# Altium integrated library Microchip Power Mgt Battery Management.IntLib: 217 symbols (part 1 of 6)
Pins are listed as number, name and electrical type; pins without a type are passive.

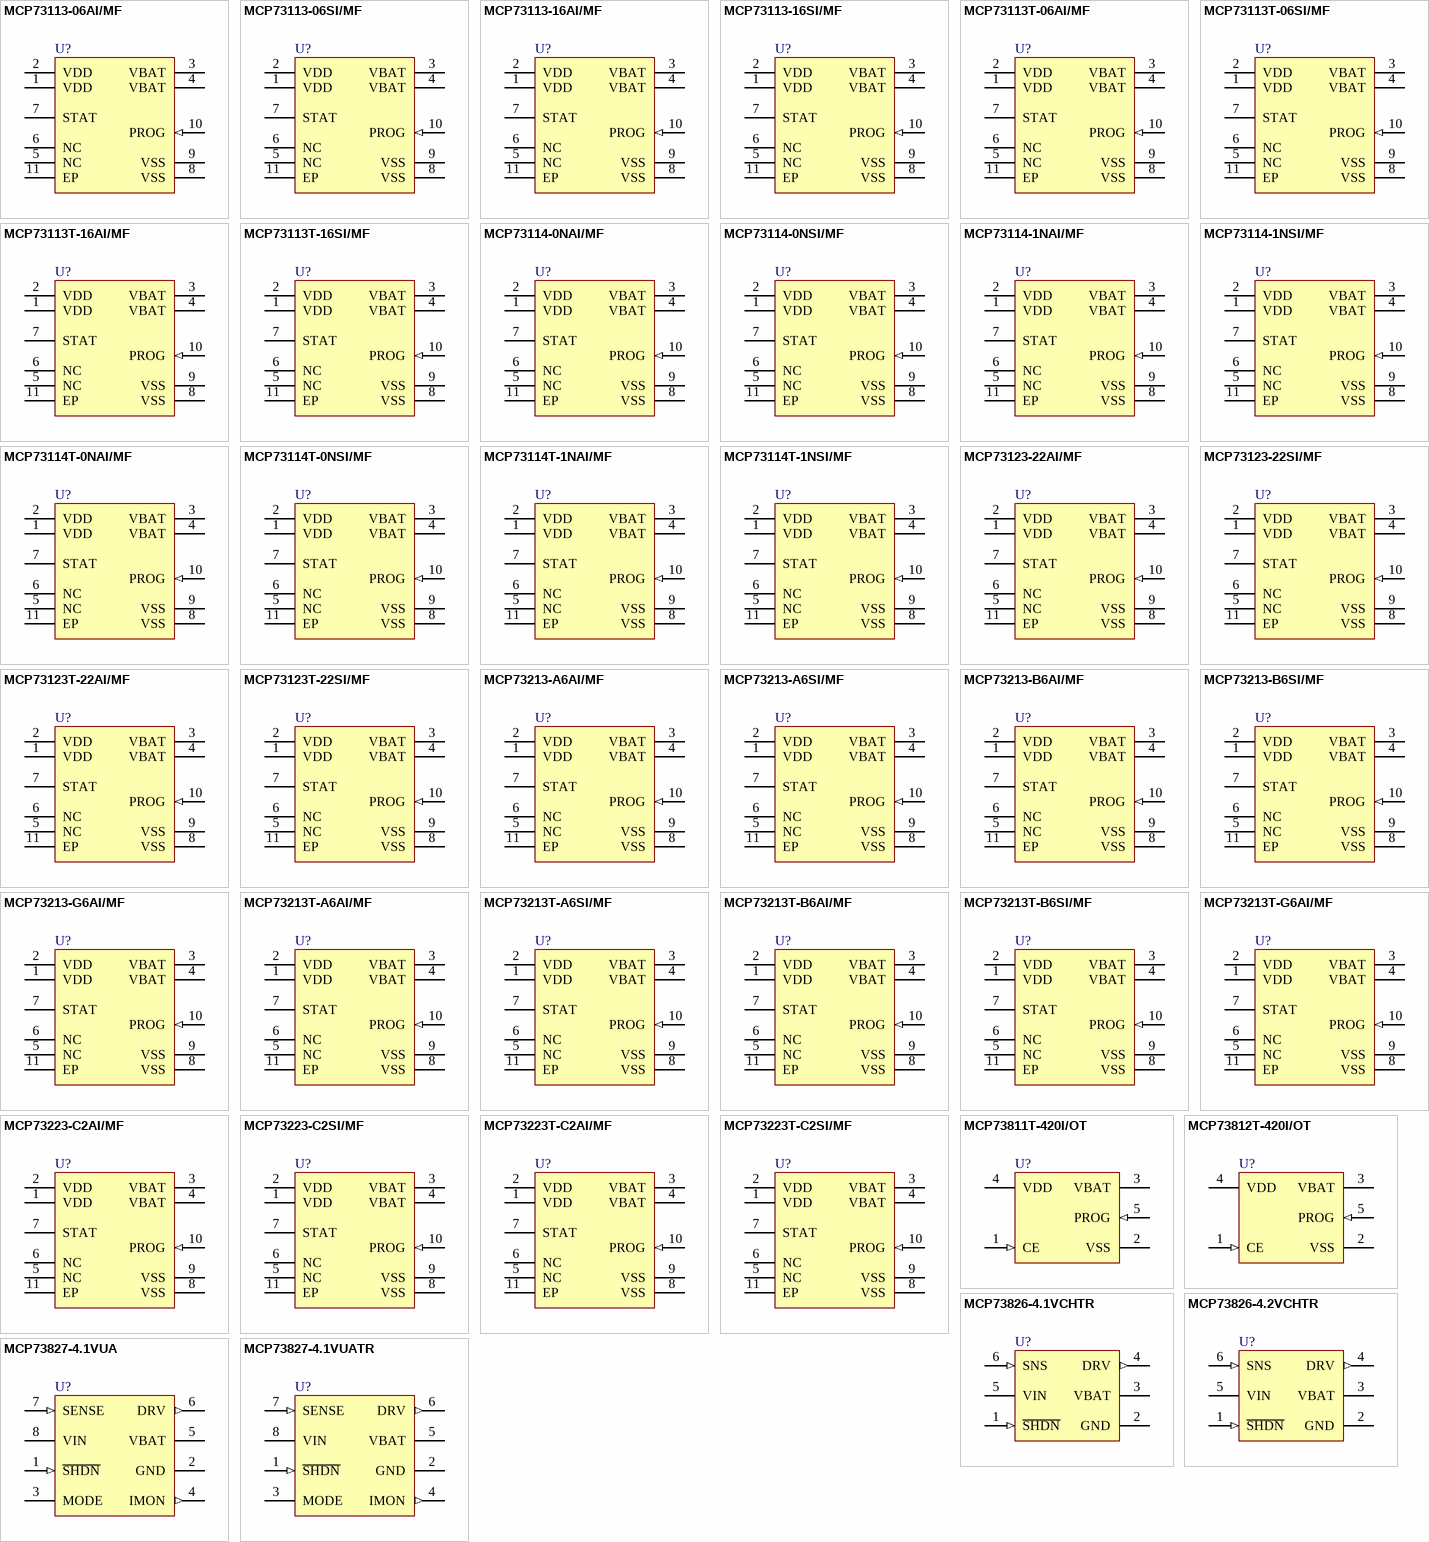
[diagram p0: symbols MCP73113-06AI/MF to MCP73827-4.1VUATR]

## MCP73113-06AI/MF
designator U?
Single-Cell Li-Ion / Li-Polymer Battery Charge Management Controller with Input, 6.5V, 10-Pin DFN, Industrial Temperature; Published: 2-Dec-2009; DatasheetVersion: revB, Jul-2009; PackageVersion: revBB, Aug-2009; PackageReference: DFN-MF10; Publisher: Altium Limited; PackageDescription: 10-Lead Plastic Dual Flat, No Lead Package (MF) - 3x3x0.9mm Body [DFN]; ComponentLink1Description: Datasheet; ComponentLink1URL: http://ww1.microchip.com/downloads/en/DeviceDoc/22183b.pdf; ComponentLink2Description: Packaging Specification; ComponentLink2URL: http://www.microchip.com/stellent/groups/techpub_sg/documents/packagingspec/en012702.pdf; ComponentLink3Description: Microchip.com Home; ComponentLink3URL: http://www.microchip.com/
footprint DFN-MF10 (SON, 10-Leads, Body 3x3mm, Pitch 0.5mm, Microchip Recommended)
pins: 1 VDD (power), 2 VDD (power), 3 VBAT (power), 4 VBAT (power), 5 NC, 6 NC, 7 STAT (oc), 8 VSS (power), 9 VSS (power), 10 PROG (in), 11 EP (power)

## MCP73113-06SI/MF
designator U?
Single-Cell Li-Ion / Li-Polymer Battery Charge Management Controller with Input, 6.5V, 10-Pin DFN, Industrial Temperature; Published: 2-Dec-2009; DatasheetVersion: revB, Jul-2009; PackageVersion: revBB, Aug-2009; PackageReference: DFN-MF10; Publisher: Altium Limited; PackageDescription: 10-Lead Plastic Dual Flat, No Lead Package (MF) - 3x3x0.9mm Body [DFN]; Supplier 1: Digi-Key; Supplier Part Number 1: MCP73113-06SI/MF-ND; Supplier 2: Farnell; Supplier Part Number 2: 1715881; ComponentLink1Description: Datasheet; ComponentLink1URL: http://ww1.microchip.com/downloads/en/DeviceDoc/22183b.pdf; ComponentLink2Description: Packaging Specification; ComponentLink2URL: http://www.microchip.com/stellent/groups/techpub_sg/documents/packagingspec/en012702.pdf; ComponentLink3Description: Microchip.com Home; ComponentLink3URL: http://www.microchip.com/
footprint DFN-MF10 (SON, 10-Leads, Body 3x3mm, Pitch 0.5mm, Microchip Recommended)
pins: 1 VDD (power), 2 VDD (power), 3 VBAT (power), 4 VBAT (power), 5 NC, 6 NC, 7 STAT (oc), 8 VSS (power), 9 VSS (power), 10 PROG (in), 11 EP (power)

## MCP73113-16AI/MF
designator U?
Single-Cell Li-Ion / Li-Polymer Battery Charge Management Controller with Input, 6.5V, 10-Pin DFN, Industrial Temperature; Published: 2-Dec-2009; DatasheetVersion: revB, Jul-2009; PackageVersion: revBB, Aug-2009; PackageReference: DFN-MF10; Publisher: Altium Limited; PackageDescription: 10-Lead Plastic Dual Flat, No Lead Package (MF) - 3x3x0.9mm Body [DFN]; ComponentLink1Description: Datasheet; ComponentLink1URL: http://ww1.microchip.com/downloads/en/DeviceDoc/22183b.pdf; ComponentLink2Description: Packaging Specification; ComponentLink2URL: http://www.microchip.com/stellent/groups/techpub_sg/documents/packagingspec/en012702.pdf; ComponentLink3Description: Microchip.com Home; ComponentLink3URL: http://www.microchip.com/
footprint DFN-MF10 (SON, 10-Leads, Body 3x3mm, Pitch 0.5mm, Microchip Recommended)
pins: 1 VDD (power), 2 VDD (power), 3 VBAT (power), 4 VBAT (power), 5 NC, 6 NC, 7 STAT (oc), 8 VSS (power), 9 VSS (power), 10 PROG (in), 11 EP (power)

## MCP73113-16SI/MF
designator U?
Single-Cell Li-Ion / Li-Polymer Battery Charge Management Controller with Input, 6.5V, 10-Pin DFN, Industrial Temperature; Published: 2-Dec-2009; DatasheetVersion: revB, Jul-2009; PackageVersion: revBB, Aug-2009; PackageReference: DFN-MF10; Publisher: Altium Limited; PackageDescription: 10-Lead Plastic Dual Flat, No Lead Package (MF) - 3x3x0.9mm Body [DFN]; Supplier 1: Digi-Key; Supplier Part Number 1: MCP73113-16SI/MF-ND; ComponentLink1Description: Datasheet; ComponentLink1URL: http://ww1.microchip.com/downloads/en/DeviceDoc/22183b.pdf; ComponentLink2Description: Packaging Specification; ComponentLink2URL: http://www.microchip.com/stellent/groups/techpub_sg/documents/packagingspec/en012702.pdf; ComponentLink3Description: Microchip.com Home; ComponentLink3URL: http://www.microchip.com/
footprint DFN-MF10 (SON, 10-Leads, Body 3x3mm, Pitch 0.5mm, Microchip Recommended)
pins: 1 VDD (power), 2 VDD (power), 3 VBAT (power), 4 VBAT (power), 5 NC, 6 NC, 7 STAT (oc), 8 VSS (power), 9 VSS (power), 10 PROG (in), 11 EP (power)

## MCP73113T-06AI/MF
designator U?
Single-Cell Li-Ion / Li-Polymer Battery Charge Management Controller with Input, 6.5V, 10-Pin DFN, Industrial Temperature, Tape and Reel; Published: 2-Dec-2009; DatasheetVersion: revB, Jul-2009; PackageVersion: revBB, Aug-2009; PackageReference: DFN-MF10; Publisher: Altium Limited; PackageDescription: 10-Lead Plastic Dual Flat, No Lead Package (MF) - 3x3x0.9mm Body [DFN]; ComponentLink1Description: Datasheet; ComponentLink1URL: http://ww1.microchip.com/downloads/en/DeviceDoc/22183b.pdf; ComponentLink2Description: Packaging Specification; ComponentLink2URL: http://www.microchip.com/stellent/groups/techpub_sg/documents/packagingspec/en012702.pdf; ComponentLink3Description: Microchip.com Home; ComponentLink3URL: http://www.microchip.com/
footprint DFN-MF10 (SON, 10-Leads, Body 3x3mm, Pitch 0.5mm, Microchip Recommended)
pins: 1 VDD (power), 2 VDD (power), 3 VBAT (power), 4 VBAT (power), 5 NC, 6 NC, 7 STAT (oc), 8 VSS (power), 9 VSS (power), 10 PROG (in), 11 EP (power)

## MCP73113T-06SI/MF
designator U?
Single-Cell Li-Ion / Li-Polymer Battery Charge Management Controller with Input, 6.5V, 10-Pin DFN, Industrial Temperature, Tape and Reel; Published: 2-Dec-2009; DatasheetVersion: revB, Jul-2009; PackageVersion: revBB, Aug-2009; PackageReference: DFN-MF10; Publisher: Altium Limited; PackageDescription: 10-Lead Plastic Dual Flat, No Lead Package (MF) - 3x3x0.9mm Body [DFN]; Supplier 1: Digi-Key; Supplier Part Number 1: MCP73113T-06SI/MF-ND; ComponentLink1Description: Datasheet; ComponentLink1URL: http://ww1.microchip.com/downloads/en/DeviceDoc/22183b.pdf; ComponentLink2Description: Packaging Specification; ComponentLink2URL: http://www.microchip.com/stellent/groups/techpub_sg/documents/packagingspec/en012702.pdf; ComponentLink3Description: Microchip.com Home; ComponentLink3URL: http://www.microchip.com/
footprint DFN-MF10 (SON, 10-Leads, Body 3x3mm, Pitch 0.5mm, Microchip Recommended)
pins: 1 VDD (power), 2 VDD (power), 3 VBAT (power), 4 VBAT (power), 5 NC, 6 NC, 7 STAT (oc), 8 VSS (power), 9 VSS (power), 10 PROG (in), 11 EP (power)

## MCP73113T-16AI/MF
designator U?
Single-Cell Li-Ion / Li-Polymer Battery Charge Management Controller with Input, 6.5V, 10-Pin DFN, Industrial Temperature, Tape and Reel; Published: 2-Dec-2009; DatasheetVersion: revB, Jul-2009; PackageVersion: revBB, Aug-2009; PackageReference: DFN-MF10; Publisher: Altium Limited; PackageDescription: 10-Lead Plastic Dual Flat, No Lead Package (MF) - 3x3x0.9mm Body [DFN]; ComponentLink1Description: Datasheet; ComponentLink1URL: http://ww1.microchip.com/downloads/en/DeviceDoc/22183b.pdf; ComponentLink2Description: Packaging Specification; ComponentLink2URL: http://www.microchip.com/stellent/groups/techpub_sg/documents/packagingspec/en012702.pdf; ComponentLink3Description: Microchip.com Home; ComponentLink3URL: http://www.microchip.com/
footprint DFN-MF10 (SON, 10-Leads, Body 3x3mm, Pitch 0.5mm, Microchip Recommended)
pins: 1 VDD (power), 2 VDD (power), 3 VBAT (power), 4 VBAT (power), 5 NC, 6 NC, 7 STAT (oc), 8 VSS (power), 9 VSS (power), 10 PROG (in), 11 EP (power)

## MCP73113T-16SI/MF
designator U?
Single-Cell Li-Ion / Li-Polymer Battery Charge Management Controller with Input, 6.5V, 10-Pin DFN, Industrial Temperature, Tape and Reel; Published: 2-Dec-2009; DatasheetVersion: revB, Jul-2009; PackageVersion: revBB, Aug-2009; PackageReference: DFN-MF10; Publisher: Altium Limited; PackageDescription: 10-Lead Plastic Dual Flat, No Lead Package (MF) - 3x3x0.9mm Body [DFN]; Supplier 1: Digi-Key; Supplier Part Number 1: MCP73113T-16SI/MF-ND; ComponentLink1Description: Datasheet; ComponentLink1URL: http://ww1.microchip.com/downloads/en/DeviceDoc/22183b.pdf; ComponentLink2Description: Packaging Specification; ComponentLink2URL: http://www.microchip.com/stellent/groups/techpub_sg/documents/packagingspec/en012702.pdf; ComponentLink3Description: Microchip.com Home; ComponentLink3URL: http://www.microchip.com/
footprint DFN-MF10 (SON, 10-Leads, Body 3x3mm, Pitch 0.5mm, Microchip Recommended)
pins: 1 VDD (power), 2 VDD (power), 3 VBAT (power), 4 VBAT (power), 5 NC, 6 NC, 7 STAT (oc), 8 VSS (power), 9 VSS (power), 10 PROG (in), 11 EP (power)

## MCP73114-0NAI/MF
designator U?
Single-Cell Li-Ion / Li-Polymer Battery Charge Management Controller with Input, 5.8V, 10-Pin DFN, Industrial Temperature; Published: 2-Dec-2009; DatasheetVersion: revB, Jul-2009; PackageVersion: revBB, Aug-2009; PackageReference: DFN-MF10; Publisher: Altium Limited; PackageDescription: 10-Lead Plastic Dual Flat, No Lead Package (MF) - 3x3x0.9mm Body [DFN]; ComponentLink1Description: Datasheet; ComponentLink1URL: http://ww1.microchip.com/downloads/en/DeviceDoc/22183b.pdf; ComponentLink2Description: Packaging Specification; ComponentLink2URL: http://www.microchip.com/stellent/groups/techpub_sg/documents/packagingspec/en012702.pdf; ComponentLink3Description: Microchip.com Home; ComponentLink3URL: http://www.microchip.com/
footprint DFN-MF10 (SON, 10-Leads, Body 3x3mm, Pitch 0.5mm, Microchip Recommended)
pins: 1 VDD (power), 2 VDD (power), 3 VBAT (power), 4 VBAT (power), 5 NC, 6 NC, 7 STAT (oc), 8 VSS (power), 9 VSS (power), 10 PROG (in), 11 EP (power)

## MCP73114-0NSI/MF
designator U?
Single-Cell Li-Ion / Li-Polymer Battery Charge Management Controller with Input, 5.8V, 10-Pin DFN, Industrial Temperature; Published: 2-Dec-2009; DatasheetVersion: revB, Jul-2009; PackageVersion: revBB, Aug-2009; PackageReference: DFN-MF10; Publisher: Altium Limited; PackageDescription: 10-Lead Plastic Dual Flat, No Lead Package (MF) - 3x3x0.9mm Body [DFN]; Supplier 1: Digi-Key; Supplier Part Number 1: MCP73114-0NSI/MF-ND; Supplier 2: Farnell; Supplier Part Number 2: 1800228; ComponentLink1Description: Datasheet; ComponentLink1URL: http://ww1.microchip.com/downloads/en/DeviceDoc/22183b.pdf; ComponentLink2Description: Packaging Specification; ComponentLink2URL: http://www.microchip.com/stellent/groups/techpub_sg/documents/packagingspec/en012702.pdf; ComponentLink3Description: Microchip.com Home; ComponentLink3URL: http://www.microchip.com/
footprint DFN-MF10 (SON, 10-Leads, Body 3x3mm, Pitch 0.5mm, Microchip Recommended)
pins: 1 VDD (power), 2 VDD (power), 3 VBAT (power), 4 VBAT (power), 5 NC, 6 NC, 7 STAT (oc), 8 VSS (power), 9 VSS (power), 10 PROG (in), 11 EP (power)

## MCP73114-1NAI/MF
designator U?
Single-Cell Li-Ion / Li-Polymer Battery Charge Management Controller with Input, 5.8V, 10-Pin DFN, Industrial Temperature; Published: 2-Dec-2009; DatasheetVersion: revB, Jul-2009; PackageVersion: revBB, Aug-2009; PackageReference: DFN-MF10; Publisher: Altium Limited; PackageDescription: 10-Lead Plastic Dual Flat, No Lead Package (MF) - 3x3x0.9mm Body [DFN]; ComponentLink1Description: Datasheet; ComponentLink1URL: http://ww1.microchip.com/downloads/en/DeviceDoc/22183b.pdf; ComponentLink2Description: Packaging Specification; ComponentLink2URL: http://www.microchip.com/stellent/groups/techpub_sg/documents/packagingspec/en012702.pdf; ComponentLink3Description: Microchip.com Home; ComponentLink3URL: http://www.microchip.com/
footprint DFN-MF10 (SON, 10-Leads, Body 3x3mm, Pitch 0.5mm, Microchip Recommended)
pins: 1 VDD (power), 2 VDD (power), 3 VBAT (power), 4 VBAT (power), 5 NC, 6 NC, 7 STAT (oc), 8 VSS (power), 9 VSS (power), 10 PROG (in), 11 EP (power)

## MCP73114-1NSI/MF
designator U?
Single-Cell Li-Ion / Li-Polymer Battery Charge Management Controller with Input, 5.8V, 10-Pin DFN, Industrial Temperature; Published: 2-Dec-2009; DatasheetVersion: revB, Jul-2009; PackageVersion: revBB, Aug-2009; PackageReference: DFN-MF10; Publisher: Altium Limited; PackageDescription: 10-Lead Plastic Dual Flat, No Lead Package (MF) - 3x3x0.9mm Body [DFN]; Supplier 1: Digi-Key; Supplier Part Number 1: MCP73114-1NSI/MF-ND; ComponentLink1Description: Datasheet; ComponentLink1URL: http://ww1.microchip.com/downloads/en/DeviceDoc/22183b.pdf; ComponentLink2Description: Packaging Specification; ComponentLink2URL: http://www.microchip.com/stellent/groups/techpub_sg/documents/packagingspec/en012702.pdf; ComponentLink3Description: Microchip.com Home; ComponentLink3URL: http://www.microchip.com/
footprint DFN-MF10 (SON, 10-Leads, Body 3x3mm, Pitch 0.5mm, Microchip Recommended)
pins: 1 VDD (power), 2 VDD (power), 3 VBAT (power), 4 VBAT (power), 5 NC, 6 NC, 7 STAT (oc), 8 VSS (power), 9 VSS (power), 10 PROG (in), 11 EP (power)

## MCP73114T-0NAI/MF
designator U?
Single-Cell Li-Ion / Li-Polymer Battery Charge Management Controller with Input, 5.8V, 10-Pin DFN, Industrial Temperature, Tape and Reel; Published: 2-Dec-2009; DatasheetVersion: revB, Jul-2009; PackageVersion: revBB, Aug-2009; PackageReference: DFN-MF10; Publisher: Altium Limited; PackageDescription: 10-Lead Plastic Dual Flat, No Lead Package (MF) - 3x3x0.9mm Body [DFN]; ComponentLink1Description: Datasheet; ComponentLink1URL: http://ww1.microchip.com/downloads/en/DeviceDoc/22183b.pdf; ComponentLink2Description: Packaging Specification; ComponentLink2URL: http://www.microchip.com/stellent/groups/techpub_sg/documents/packagingspec/en012702.pdf; ComponentLink3Description: Microchip.com Home; ComponentLink3URL: http://www.microchip.com/
footprint DFN-MF10 (SON, 10-Leads, Body 3x3mm, Pitch 0.5mm, Microchip Recommended)
pins: 1 VDD (power), 2 VDD (power), 3 VBAT (power), 4 VBAT (power), 5 NC, 6 NC, 7 STAT (oc), 8 VSS (power), 9 VSS (power), 10 PROG (in), 11 EP (power)

## MCP73114T-0NSI/MF
designator U?
Single-Cell Li-Ion / Li-Polymer Battery Charge Management Controller with Input, 5.8V, 10-Pin DFN, Industrial Temperature, Tape and Reel; Published: 2-Dec-2009; DatasheetVersion: revB, Jul-2009; PackageVersion: revBB, Aug-2009; PackageReference: DFN-MF10; Publisher: Altium Limited; PackageDescription: 10-Lead Plastic Dual Flat, No Lead Package (MF) - 3x3x0.9mm Body [DFN]; Supplier 1: Digi-Key; Supplier Part Number 1: MCP73114T-0NSI/MF-ND; ComponentLink1Description: Datasheet; ComponentLink1URL: http://ww1.microchip.com/downloads/en/DeviceDoc/22183b.pdf; ComponentLink2Description: Packaging Specification; ComponentLink2URL: http://www.microchip.com/stellent/groups/techpub_sg/documents/packagingspec/en012702.pdf; ComponentLink3Description: Microchip.com Home; ComponentLink3URL: http://www.microchip.com/
footprint DFN-MF10 (SON, 10-Leads, Body 3x3mm, Pitch 0.5mm, Microchip Recommended)
pins: 1 VDD (power), 2 VDD (power), 3 VBAT (power), 4 VBAT (power), 5 NC, 6 NC, 7 STAT (oc), 8 VSS (power), 9 VSS (power), 10 PROG (in), 11 EP (power)

## MCP73114T-1NAI/MF
designator U?
Single-Cell Li-Ion / Li-Polymer Battery Charge Management Controller with Input, 5.8V, 10-Pin DFN, Industrial Temperature, Tape and Reel; Published: 2-Dec-2009; DatasheetVersion: revB, Jul-2009; PackageVersion: revBB, Aug-2009; PackageReference: DFN-MF10; Publisher: Altium Limited; PackageDescription: 10-Lead Plastic Dual Flat, No Lead Package (MF) - 3x3x0.9mm Body [DFN]; ComponentLink1Description: Datasheet; ComponentLink1URL: http://ww1.microchip.com/downloads/en/DeviceDoc/22183b.pdf; ComponentLink2Description: Packaging Specification; ComponentLink2URL: http://www.microchip.com/stellent/groups/techpub_sg/documents/packagingspec/en012702.pdf; ComponentLink3Description: Microchip.com Home; ComponentLink3URL: http://www.microchip.com/
footprint DFN-MF10 (SON, 10-Leads, Body 3x3mm, Pitch 0.5mm, Microchip Recommended)
pins: 1 VDD (power), 2 VDD (power), 3 VBAT (power), 4 VBAT (power), 5 NC, 6 NC, 7 STAT (oc), 8 VSS (power), 9 VSS (power), 10 PROG (in), 11 EP (power)

## MCP73114T-1NSI/MF
designator U?
Single-Cell Li-Ion / Li-Polymer Battery Charge Management Controller with Input, 5.8V, 10-Pin DFN, Industrial Temperature, Tape and Reel; Published: 2-Dec-2009; DatasheetVersion: revB, Jul-2009; PackageVersion: revBB, Aug-2009; PackageReference: DFN-MF10; Publisher: Altium Limited; PackageDescription: 10-Lead Plastic Dual Flat, No Lead Package (MF) - 3x3x0.9mm Body [DFN]; Supplier 1: Digi-Key; Supplier Part Number 1: MCP73114T-1NSI/MF-ND; ComponentLink1Description: Datasheet; ComponentLink1URL: http://ww1.microchip.com/downloads/en/DeviceDoc/22183b.pdf; ComponentLink2Description: Packaging Specification; ComponentLink2URL: http://www.microchip.com/stellent/groups/techpub_sg/documents/packagingspec/en012702.pdf; ComponentLink3Description: Microchip.com Home; ComponentLink3URL: http://www.microchip.com/
footprint DFN-MF10 (SON, 10-Leads, Body 3x3mm, Pitch 0.5mm, Microchip Recommended)
pins: 1 VDD (power), 2 VDD (power), 3 VBAT (power), 4 VBAT (power), 5 NC, 6 NC, 7 STAT (oc), 8 VSS (power), 9 VSS (power), 10 PROG (in), 11 EP (power)

## MCP73123-22AI/MF
designator U?
Lithium Iron Phosphate (LiFePO4) Battery Charge Management Controller with Input OVP, 6.5V, 10-Pin DFN, Industrial Temperature; Published: 2-Dec-2009; DatasheetVersion: revA, Jul-2009; PackageVersion: revBB, Aug-2009; PackageReference: DFN-MF10; Publisher: Altium Limited; PackageDescription: 10-Lead Plastic Dual Flat, No Lead Package (MF) - 3x3x0.9mm Body [DFN]; ComponentLink1Description: Datasheet; ComponentLink1URL: http://ww1.microchip.com/downloads/en/DeviceDoc/22191a.pdf; ComponentLink2Description: Packaging Specification; ComponentLink2URL: http://www.microchip.com/stellent/groups/techpub_sg/documents/packagingspec/en012702.pdf; ComponentLink3Description: Microchip.com Home; ComponentLink3URL: http://www.microchip.com/
footprint DFN-MF10 (SON, 10-Leads, Body 3x3mm, Pitch 0.5mm, Microchip Recommended)
pins: 1 VDD (power), 2 VDD (power), 3 VBAT (power), 4 VBAT (power), 5 NC, 6 NC, 7 STAT (oc), 8 VSS (power), 9 VSS (power), 10 PROG (in), 11 EP (power)

## MCP73123-22SI/MF
designator U?
Lithium Iron Phosphate (LiFePO4) Battery Charge Management Controller with Input OVP, 6.5V, 10-Pin DFN, Industrial Temperature; Published: 2-Dec-2009; DatasheetVersion: revA, Jul-2009; PackageVersion: revBB, Aug-2009; PackageReference: DFN-MF10; Publisher: Altium Limited; PackageDescription: 10-Lead Plastic Dual Flat, No Lead Package (MF) - 3x3x0.9mm Body [DFN]; Supplier 1: Digi-Key; Supplier Part Number 1: MCP73123-22SI/MF-ND; Supplier 2: Farnell; Supplier Part Number 2: 1800229; Supplier 3: Farnell; Supplier Part Number 3: 1762537; ComponentLink1Description: Datasheet; ComponentLink1URL: http://ww1.microchip.com/downloads/en/DeviceDoc/22191a.pdf; ComponentLink2Description: Packaging Specification; ComponentLink2URL: http://www.microchip.com/stellent/groups/techpub_sg/documents/packagingspec/en012702.pdf; ComponentLink3Description: Microchip.com Home; ComponentLink3URL: http://www.microchip.com/
footprint DFN-MF10 (SON, 10-Leads, Body 3x3mm, Pitch 0.5mm, Microchip Recommended)
pins: 1 VDD (power), 2 VDD (power), 3 VBAT (power), 4 VBAT (power), 5 NC, 6 NC, 7 STAT (oc), 8 VSS (power), 9 VSS (power), 10 PROG (in), 11 EP (power)

## MCP73123T-22AI/MF
designator U?
Lithium Iron Phosphate (LiFePO4) Battery Charge Management Controller with Input OVP, 6.5V, 10-Pin DFN, Industrial Temperature, Tape and Reel; Published: 2-Dec-2009; DatasheetVersion: revA, Jul-2009; PackageVersion: revBB, Aug-2009; PackageReference: DFN-MF10; Publisher: Altium Limited; PackageDescription: 10-Lead Plastic Dual Flat, No Lead Package (MF) - 3x3x0.9mm Body [DFN]; ComponentLink1Description: Datasheet; ComponentLink1URL: http://ww1.microchip.com/downloads/en/DeviceDoc/22191a.pdf; ComponentLink2Description: Packaging Specification; ComponentLink2URL: http://www.microchip.com/stellent/groups/techpub_sg/documents/packagingspec/en012702.pdf; ComponentLink3Description: Microchip.com Home; ComponentLink3URL: http://www.microchip.com/
footprint DFN-MF10 (SON, 10-Leads, Body 3x3mm, Pitch 0.5mm, Microchip Recommended)
pins: 1 VDD (power), 2 VDD (power), 3 VBAT (power), 4 VBAT (power), 5 NC, 6 NC, 7 STAT (oc), 8 VSS (power), 9 VSS (power), 10 PROG (in), 11 EP (power)

## MCP73123T-22SI/MF
designator U?
Lithium Iron Phosphate (LiFePO4) Battery Charge Management Controller with Input OVP, 6.5V, 10-Pin DFN, Industrial Temperature, Tape and Reel; Published: 2-Dec-2009; DatasheetVersion: revA, Jul-2009; PackageVersion: revBB, Aug-2009; PackageReference: DFN-MF10; Publisher: Altium Limited; PackageDescription: 10-Lead Plastic Dual Flat, No Lead Package (MF) - 3x3x0.9mm Body [DFN]; Supplier 1: Digi-Key; Supplier Part Number 1: MCP73123T-22SI/MF-ND; ComponentLink1Description: Datasheet; ComponentLink1URL: http://ww1.microchip.com/downloads/en/DeviceDoc/22191a.pdf; ComponentLink2Description: Packaging Specification; ComponentLink2URL: http://www.microchip.com/stellent/groups/techpub_sg/documents/packagingspec/en012702.pdf; ComponentLink3Description: Microchip.com Home; ComponentLink3URL: http://www.microchip.com/
footprint DFN-MF10 (SON, 10-Leads, Body 3x3mm, Pitch 0.5mm, Microchip Recommended)
pins: 1 VDD (power), 2 VDD (power), 3 VBAT (power), 4 VBAT (power), 5 NC, 6 NC, 7 STAT (oc), 8 VSS (power), 9 VSS (power), 10 PROG (in), 11 EP (power)

## MCP73213-A6AI/MF
designator U?
Dual-Cell Li-Ion / Li-Polymer Battery Charge Management Controller with OVP, 13V, 10-Pin DFN, Industrial Temperature; Published: 2-Dec-2009; DatasheetVersion: revA, Jul-2009; PackageVersion: revBB, Aug-2009; PackageReference: DFN-MF10; Publisher: Altium Limited; PackageDescription: 10-Lead Plastic Dual Flat, No Lead Package (MF) - 3x3x0.9mm Body [DFN]; ComponentLink1Description: Datasheet; ComponentLink1URL: http://ww1.microchip.com/downloads/en/DeviceDoc/22190a.pdf; ComponentLink2Description: Packaging Specification; ComponentLink2URL: http://www.microchip.com/stellent/groups/techpub_sg/documents/packagingspec/en012702.pdf; ComponentLink3Description: Microchip.com Home; ComponentLink3URL: http://www.microchip.com/
footprint DFN-MF10 (SON, 10-Leads, Body 3x3mm, Pitch 0.5mm, Microchip Recommended)
pins: 1 VDD (power), 2 VDD (power), 3 VBAT (power), 4 VBAT (power), 5 NC, 6 NC, 7 STAT (oc), 8 VSS (power), 9 VSS (power), 10 PROG (in), 11 EP (power)

## MCP73213-A6SI/MF
designator U?
Dual-Cell Li-Ion / Li-Polymer Battery Charge Management Controller with OVP, 13V, 10-Pin DFN, Industrial Temperature; Published: 2-Dec-2009; DatasheetVersion: revA, Jul-2009; PackageVersion: revBB, Aug-2009; PackageReference: DFN-MF10; Publisher: Altium Limited; PackageDescription: 10-Lead Plastic Dual Flat, No Lead Package (MF) - 3x3x0.9mm Body [DFN]; Supplier 1: Digi-Key; Supplier Part Number 1: MCP73213-A6SI/MF-ND; Supplier 2: Farnell; Supplier Part Number 2: 1800230; ComponentLink1Description: Datasheet; ComponentLink1URL: http://ww1.microchip.com/downloads/en/DeviceDoc/22190a.pdf; ComponentLink2Description: Packaging Specification; ComponentLink2URL: http://www.microchip.com/stellent/groups/techpub_sg/documents/packagingspec/en012702.pdf; ComponentLink3Description: Microchip.com Home; ComponentLink3URL: http://www.microchip.com/
footprint DFN-MF10 (SON, 10-Leads, Body 3x3mm, Pitch 0.5mm, Microchip Recommended)
pins: 1 VDD (power), 2 VDD (power), 3 VBAT (power), 4 VBAT (power), 5 NC, 6 NC, 7 STAT (oc), 8 VSS (power), 9 VSS (power), 10 PROG (in), 11 EP (power)

## MCP73213-B6AI/MF
designator U?
Dual-Cell Li-Ion / Li-Polymer Battery Charge Management Controller with OVP, 13V, 10-Pin DFN, Industrial Temperature; Published: 2-Dec-2009; DatasheetVersion: revA, Jul-2009; PackageVersion: revBB, Aug-2009; PackageReference: DFN-MF10; Publisher: Altium Limited; PackageDescription: 10-Lead Plastic Dual Flat, No Lead Package (MF) - 3x3x0.9mm Body [DFN]; ComponentLink1Description: Datasheet; ComponentLink1URL: http://ww1.microchip.com/downloads/en/DeviceDoc/22190a.pdf; ComponentLink2Description: Packaging Specification; ComponentLink2URL: http://www.microchip.com/stellent/groups/techpub_sg/documents/packagingspec/en012702.pdf; ComponentLink3Description: Microchip.com Home; ComponentLink3URL: http://www.microchip.com/
footprint DFN-MF10 (SON, 10-Leads, Body 3x3mm, Pitch 0.5mm, Microchip Recommended)
pins: 1 VDD (power), 2 VDD (power), 3 VBAT (power), 4 VBAT (power), 5 NC, 6 NC, 7 STAT (oc), 8 VSS (power), 9 VSS (power), 10 PROG (in), 11 EP (power)

## MCP73213-B6SI/MF
designator U?
Dual-Cell Li-Ion / Li-Polymer Battery Charge Management Controller with OVP, 13V, 10-Pin DFN, Industrial Temperature; Published: 2-Dec-2009; DatasheetVersion: revA, Jul-2009; PackageVersion: revBB, Aug-2009; PackageReference: DFN-MF10; Publisher: Altium Limited; PackageDescription: 10-Lead Plastic Dual Flat, No Lead Package (MF) - 3x3x0.9mm Body [DFN]; Supplier 1: Digi-Key; Supplier Part Number 1: MCP73213-B6SI/MF-ND; Supplier 2: Farnell; Supplier Part Number 2: 1800232; ComponentLink1Description: Datasheet; ComponentLink1URL: http://ww1.microchip.com/downloads/en/DeviceDoc/22190a.pdf; ComponentLink2Description: Packaging Specification; ComponentLink2URL: http://www.microchip.com/stellent/groups/techpub_sg/documents/packagingspec/en012702.pdf; ComponentLink3Description: Microchip.com Home; ComponentLink3URL: http://www.microchip.com/
footprint DFN-MF10 (SON, 10-Leads, Body 3x3mm, Pitch 0.5mm, Microchip Recommended)
pins: 1 VDD (power), 2 VDD (power), 3 VBAT (power), 4 VBAT (power), 5 NC, 6 NC, 7 STAT (oc), 8 VSS (power), 9 VSS (power), 10 PROG (in), 11 EP (power)

## MCP73213-G6AI/MF
designator U?
Dual-Cell Li-Ion / Li-Polymer Battery Charge Management Controller with OVP, 13V, 10-Pin DFN, Industrial Temperature; Published: 2-Dec-2009; DatasheetVersion: revA, Jul-2009; PackageVersion: revBB, Aug-2009; PackageReference: DFN-MF10; Publisher: Altium Limited; PackageDescription: 10-Lead Plastic Dual Flat, No Lead Package (MF) - 3x3x0.9mm Body [DFN]; ComponentLink1Description: Datasheet; ComponentLink1URL: http://ww1.microchip.com/downloads/en/DeviceDoc/22190a.pdf; ComponentLink2Description: Packaging Specification; ComponentLink2URL: http://www.microchip.com/stellent/groups/techpub_sg/documents/packagingspec/en012702.pdf; ComponentLink3Description: Microchip.com Home; ComponentLink3URL: http://www.microchip.com/
footprint DFN-MF10 (SON, 10-Leads, Body 3x3mm, Pitch 0.5mm, Microchip Recommended)
pins: 1 VDD (power), 2 VDD (power), 3 VBAT (power), 4 VBAT (power), 5 NC, 6 NC, 7 STAT (oc), 8 VSS (power), 9 VSS (power), 10 PROG (in), 11 EP (power)

## MCP73213T-A6AI/MF
designator U?
Dual-Cell Li-Ion / Li-Polymer Battery Charge Management Controller with OVP, 13V, 10-Pin DFN, Industrial Temperature, Tape and Reel; Published: 2-Dec-2009; DatasheetVersion: revA, Jul-2009; PackageVersion: revBB, Aug-2009; PackageReference: DFN-MF10; Publisher: Altium Limited; PackageDescription: 10-Lead Plastic Dual Flat, No Lead Package (MF) - 3x3x0.9mm Body [DFN]; ComponentLink1Description: Datasheet; ComponentLink1URL: http://ww1.microchip.com/downloads/en/DeviceDoc/22190a.pdf; ComponentLink2Description: Packaging Specification; ComponentLink2URL: http://www.microchip.com/stellent/groups/techpub_sg/documents/packagingspec/en012702.pdf; ComponentLink3Description: Microchip.com Home; ComponentLink3URL: http://www.microchip.com/
footprint DFN-MF10 (SON, 10-Leads, Body 3x3mm, Pitch 0.5mm, Microchip Recommended)
pins: 1 VDD (power), 2 VDD (power), 3 VBAT (power), 4 VBAT (power), 5 NC, 6 NC, 7 STAT (oc), 8 VSS (power), 9 VSS (power), 10 PROG (in), 11 EP (power)

## MCP73213T-A6SI/MF
designator U?
Dual-Cell Li-Ion / Li-Polymer Battery Charge Management Controller with OVP, 13V, 10-Pin DFN, Industrial Temperature, Tape and Reel; Published: 2-Dec-2009; DatasheetVersion: revA, Jul-2009; PackageVersion: revBB, Aug-2009; PackageReference: DFN-MF10; Publisher: Altium Limited; PackageDescription: 10-Lead Plastic Dual Flat, No Lead Package (MF) - 3x3x0.9mm Body [DFN]; Supplier 1: Digi-Key; Supplier Part Number 1: MCP73213T-A6SI/MF-ND; ComponentLink1Description: Datasheet; ComponentLink1URL: http://ww1.microchip.com/downloads/en/DeviceDoc/22190a.pdf; ComponentLink2Description: Packaging Specification; ComponentLink2URL: http://www.microchip.com/stellent/groups/techpub_sg/documents/packagingspec/en012702.pdf; ComponentLink3Description: Microchip.com Home; ComponentLink3URL: http://www.microchip.com/
footprint DFN-MF10 (SON, 10-Leads, Body 3x3mm, Pitch 0.5mm, Microchip Recommended)
pins: 1 VDD (power), 2 VDD (power), 3 VBAT (power), 4 VBAT (power), 5 NC, 6 NC, 7 STAT (oc), 8 VSS (power), 9 VSS (power), 10 PROG (in), 11 EP (power)

## MCP73213T-B6AI/MF
designator U?
Dual-Cell Li-Ion / Li-Polymer Battery Charge Management Controller with OVP, 13V, 10-Pin DFN, Industrial Temperature, Tape and Reel; Published: 2-Dec-2009; DatasheetVersion: revA, Jul-2009; PackageVersion: revBB, Aug-2009; PackageReference: DFN-MF10; Publisher: Altium Limited; PackageDescription: 10-Lead Plastic Dual Flat, No Lead Package (MF) - 3x3x0.9mm Body [DFN]; ComponentLink1Description: Datasheet; ComponentLink1URL: http://ww1.microchip.com/downloads/en/DeviceDoc/22190a.pdf; ComponentLink2Description: Packaging Specification; ComponentLink2URL: http://www.microchip.com/stellent/groups/techpub_sg/documents/packagingspec/en012702.pdf; ComponentLink3Description: Microchip.com Home; ComponentLink3URL: http://www.microchip.com/
footprint DFN-MF10 (SON, 10-Leads, Body 3x3mm, Pitch 0.5mm, Microchip Recommended)
pins: 1 VDD (power), 2 VDD (power), 3 VBAT (power), 4 VBAT (power), 5 NC, 6 NC, 7 STAT (oc), 8 VSS (power), 9 VSS (power), 10 PROG (in), 11 EP (power)

## MCP73213T-B6SI/MF
designator U?
Dual-Cell Li-Ion / Li-Polymer Battery Charge Management Controller with OVP, 13V, 10-Pin DFN, Industrial Temperature, Tape and Reel; Published: 2-Dec-2009; DatasheetVersion: revA, Jul-2009; PackageVersion: revBB, Aug-2009; PackageReference: DFN-MF10; Publisher: Altium Limited; PackageDescription: 10-Lead Plastic Dual Flat, No Lead Package (MF) - 3x3x0.9mm Body [DFN]; Supplier 1: Digi-Key; Supplier Part Number 1: MCP73213T-B6SI/MF-ND; ComponentLink1Description: Datasheet; ComponentLink1URL: http://ww1.microchip.com/downloads/en/DeviceDoc/22190a.pdf; ComponentLink2Description: Packaging Specification; ComponentLink2URL: http://www.microchip.com/stellent/groups/techpub_sg/documents/packagingspec/en012702.pdf; ComponentLink3Description: Microchip.com Home; ComponentLink3URL: http://www.microchip.com/
footprint DFN-MF10 (SON, 10-Leads, Body 3x3mm, Pitch 0.5mm, Microchip Recommended)
pins: 1 VDD (power), 2 VDD (power), 3 VBAT (power), 4 VBAT (power), 5 NC, 6 NC, 7 STAT (oc), 8 VSS (power), 9 VSS (power), 10 PROG (in), 11 EP (power)

## MCP73213T-G6AI/MF
designator U?
Dual-Cell Li-Ion / Li-Polymer Battery Charge Management Controller with OVP, 13V, 10-Pin DFN, Industrial Temperature, Tape and Reel; Published: 2-Dec-2009; DatasheetVersion: revA, Jul-2009; PackageVersion: revBB, Aug-2009; PackageReference: DFN-MF10; Publisher: Altium Limited; PackageDescription: 10-Lead Plastic Dual Flat, No Lead Package (MF) - 3x3x0.9mm Body [DFN]; ComponentLink1Description: Datasheet; ComponentLink1URL: http://ww1.microchip.com/downloads/en/DeviceDoc/22190a.pdf; ComponentLink2Description: Packaging Specification; ComponentLink2URL: http://www.microchip.com/stellent/groups/techpub_sg/documents/packagingspec/en012702.pdf; ComponentLink3Description: Microchip.com Home; ComponentLink3URL: http://www.microchip.com/
footprint DFN-MF10 (SON, 10-Leads, Body 3x3mm, Pitch 0.5mm, Microchip Recommended)
pins: 1 VDD (power), 2 VDD (power), 3 VBAT (power), 4 VBAT (power), 5 NC, 6 NC, 7 STAT (oc), 8 VSS (power), 9 VSS (power), 10 PROG (in), 11 EP (power)

## MCP73223-C2AI/MF
designator U?
Lithium Iron Phosphate (LiFePO4) Battery Charge Management Controller with Input OVP, 13V, 10-Pin DFN, Industrial Temperature; Published: 2-Dec-2009; DatasheetVersion: revA, Jul-2009; PackageVersion: revBB, Aug-2009; PackageReference: DFN-MF10; Publisher: Altium Limited; PackageDescription: 10-Lead Plastic Dual Flat, No Lead Package (MF) - 3x3x0.9mm Body [DFN]; ComponentLink1Description: Datasheet; ComponentLink1URL: http://ww1.microchip.com/downloads/en/DeviceDoc/22191a.pdf; ComponentLink2Description: Packaging Specification; ComponentLink2URL: http://www.microchip.com/stellent/groups/techpub_sg/documents/packagingspec/en012702.pdf; ComponentLink3Description: Microchip.com Home; ComponentLink3URL: http://www.microchip.com/
footprint DFN-MF10 (SON, 10-Leads, Body 3x3mm, Pitch 0.5mm, Microchip Recommended)
pins: 1 VDD (power), 2 VDD (power), 3 VBAT (power), 4 VBAT (power), 5 NC, 6 NC, 7 STAT (oc), 8 VSS (power), 9 VSS (power), 10 PROG (in), 11 EP (power)

## MCP73223-C2SI/MF
designator U?
Lithium Iron Phosphate (LiFePO4) Battery Charge Management Controller with Input OVP, 13V, 10-Pin DFN, Industrial Temperature; Published: 2-Dec-2009; DatasheetVersion: revA, Jul-2009; PackageVersion: revBB, Aug-2009; PackageReference: DFN-MF10; Publisher: Altium Limited; PackageDescription: 10-Lead Plastic Dual Flat, No Lead Package (MF) - 3x3x0.9mm Body [DFN]; Supplier 1: Digi-Key; Supplier Part Number 1: MCP73223-C2SI/MF-ND; Supplier 2: Farnell; Supplier Part Number 2: 1800233; Supplier 3: Farnell; Supplier Part Number 3: 1762542; ComponentLink1Description: Datasheet; ComponentLink1URL: http://ww1.microchip.com/downloads/en/DeviceDoc/22191a.pdf; ComponentLink2Description: Packaging Specification; ComponentLink2URL: http://www.microchip.com/stellent/groups/techpub_sg/documents/packagingspec/en012702.pdf; ComponentLink3Description: Microchip.com Home; ComponentLink3URL: http://www.microchip.com/
footprint DFN-MF10 (SON, 10-Leads, Body 3x3mm, Pitch 0.5mm, Microchip Recommended)
pins: 1 VDD (power), 2 VDD (power), 3 VBAT (power), 4 VBAT (power), 5 NC, 6 NC, 7 STAT (oc), 8 VSS (power), 9 VSS (power), 10 PROG (in), 11 EP (power)

## MCP73223T-C2AI/MF
designator U?
Lithium Iron Phosphate (LiFePO4) Battery Charge Management Controller with Input OVP, 13V, 10-Pin DFN, Industrial Temperature, Tape and Reel; Published: 2-Dec-2009; DatasheetVersion: revA, Jul-2009; PackageVersion: revBB, Aug-2009; PackageReference: DFN-MF10; Publisher: Altium Limited; PackageDescription: 10-Lead Plastic Dual Flat, No Lead Package (MF) - 3x3x0.9mm Body [DFN]; ComponentLink1Description: Datasheet; ComponentLink1URL: http://ww1.microchip.com/downloads/en/DeviceDoc/22191a.pdf; ComponentLink2Description: Packaging Specification; ComponentLink2URL: http://www.microchip.com/stellent/groups/techpub_sg/documents/packagingspec/en012702.pdf; ComponentLink3Description: Microchip.com Home; ComponentLink3URL: http://www.microchip.com/
footprint DFN-MF10 (SON, 10-Leads, Body 3x3mm, Pitch 0.5mm, Microchip Recommended)
pins: 1 VDD (power), 2 VDD (power), 3 VBAT (power), 4 VBAT (power), 5 NC, 6 NC, 7 STAT (oc), 8 VSS (power), 9 VSS (power), 10 PROG (in), 11 EP (power)

## MCP73223T-C2SI/MF
designator U?
Lithium Iron Phosphate (LiFePO4) Battery Charge Management Controller with Input OVP, 13V, 10-Pin DFN, Industrial Temperature, Tape and Reel; Published: 2-Dec-2009; DatasheetVersion: revA, Jul-2009; PackageVersion: revBB, Aug-2009; PackageReference: DFN-MF10; Publisher: Altium Limited; PackageDescription: 10-Lead Plastic Dual Flat, No Lead Package (MF) - 3x3x0.9mm Body [DFN]; Supplier 1: Digi-Key; Supplier Part Number 1: MCP73223T-C2SI/MF-ND; ComponentLink1Description: Datasheet; ComponentLink1URL: http://ww1.microchip.com/downloads/en/DeviceDoc/22191a.pdf; ComponentLink2Description: Packaging Specification; ComponentLink2URL: http://www.microchip.com/stellent/groups/techpub_sg/documents/packagingspec/en012702.pdf; ComponentLink3Description: Microchip.com Home; ComponentLink3URL: http://www.microchip.com/
footprint DFN-MF10 (SON, 10-Leads, Body 3x3mm, Pitch 0.5mm, Microchip Recommended)
pins: 1 VDD (power), 2 VDD (power), 3 VBAT (power), 4 VBAT (power), 5 NC, 6 NC, 7 STAT (oc), 8 VSS (power), 9 VSS (power), 10 PROG (in), 11 EP (power)

## MCP73811T-420I/OT
designator U?
Simple, Miniature Single-Cell, Fully Integrated Li-Ion/Li-Polymer Charge Management Controller, 4.2V, 5-Pin SOT-23, Industrial Temperature, Tape and Reel; Published: 29-Jan-2009; DatasheetVersion: revB, Sep-2007; PackageVersion: revBB, Aug-2009; PackageReference: SOT-23-OT5; Publisher: Altium Limited; PackageDescription: 5-Lead Plastic Small Outline Transistor (OT) [SOT-23]; Supplier 1: Digi-Key; Supplier Part Number 1: MCP73811T-420I/OTTR-ND; Supplier 2: Digi-Key; Supplier Part Number 2: MCP73811T-420I/OTCT-ND; Supplier 3: Digi-Key; Supplier Part Number 3: MCP73811T-420I/OTDKR-ND; Supplier 4: Farnell; Supplier Part Number 4: 1439477; Code_IPC: SOT23-5; ComponentLink1Description: Datasheet; ComponentLink1URL: http://ww1.microchip.com/downloads/en/DeviceDoc/22036b.pdf; ComponentLink2Description: Packaging Specification; ComponentLink2URL: http://www.microchip.com/stellent/groups/techpub_sg/documents/packagingspec/en012702.pdf; ComponentLink3Description: Microchip.com Home; ComponentLink3URL: http://www.microchip.com/
footprint SOT-23-OT5_N (SOT23, 5-Leads, Body 2.9x1.6mm, Pitch 0.95mm, Lead Span 2.7mm, IPC Medium Density)
footprint SOT-23-OT5_L (SOT23, 5-Leads, Body 2.9x1.6mm, Pitch 0.95mm, Lead Span 2.7mm, IPC High Density)
footprint SOT-23-OT5_M (SOT23, 5-Leads, Body 2.9x1.6mm, Pitch 0.95mm, Lead Span 2.7mm, IPC Low Density)
pins: 1 CE (in), 2 VSS (power), 3 VBAT (power), 4 VDD (power), 5 PROG (in)

## MCP73812T-420I/OT
designator U?
Simple, Miniature Single-Cell, Fully Integrated Li-Ion/Li-Polymer Charge Management Controller, 4.2V, 5-Pin SOT-23, Industrial Temperature, Tape and Reel; Published: 29-Jan-2009; DatasheetVersion: revB, Sep-2007; PackageVersion: revBB, Aug-2009; PackageReference: SOT-23-OT5; Publisher: Altium Limited; PackageDescription: 5-Lead Plastic Small Outline Transistor (OT) [SOT-23]; Supplier 1: Digi-Key; Supplier Part Number 1: MCP73812T-420I/OTTR-ND; Supplier 2: Digi-Key; Supplier Part Number 2: MCP73812T-420I/OTCT-ND; Supplier 3: Digi-Key; Supplier Part Number 3: MCP73812T-420I/OTDKR-ND; Supplier 4: Farnell; Supplier Part Number 4: 1627187; Code_IPC: SOT23-5; ComponentLink1Description: Datasheet; ComponentLink1URL: http://ww1.microchip.com/downloads/en/DeviceDoc/22036b.pdf; ComponentLink2Description: Packaging Specification; ComponentLink2URL: http://www.microchip.com/stellent/groups/techpub_sg/documents/packagingspec/en012702.pdf; ComponentLink3Description: Microchip.com Home; ComponentLink3URL: http://www.microchip.com/
footprint SOT-23-OT5_N (SOT23, 5-Leads, Body 2.9x1.6mm, Pitch 0.95mm, Lead Span 2.7mm, IPC Medium Density)
footprint SOT-23-OT5_L (SOT23, 5-Leads, Body 2.9x1.6mm, Pitch 0.95mm, Lead Span 2.7mm, IPC High Density)
footprint SOT-23-OT5_M (SOT23, 5-Leads, Body 2.9x1.6mm, Pitch 0.95mm, Lead Span 2.7mm, IPC Low Density)
pins: 1 CE (in), 2 VSS (power), 3 VBAT (power), 4 VDD (power), 5 PROG (in)

## MCP73826-4.1VCHTR
designator U?
Single Cell Li-Ion Charge Management Controller, 4.1V, 6-Pin SOT-23, Industrial Temperature, Tape and Reel; Published: 29-Jan-2009; DatasheetVersion: revA, Feb-2003; PackageVersion: revBB, Aug-2009; PackageReference: SOT-23-CH6; Publisher: Altium Limited; PackageDescription: 6-Lead Plastic Small Outline Transistor (CH) [SOT-23]; Supplier 1: Digi-Key; Supplier Part Number 1: MCP73826-4.1VCHTR-ND; Code_IPC: SOT26A-6; ComponentLink1Description: Datasheet; ComponentLink1URL: http://ww1.microchip.com/downloads/en/DeviceDoc/21705a.pdf; ComponentLink2Description: Packaging Specification; ComponentLink2URL: http://www.microchip.com/stellent/groups/techpub_sg/documents/packagingspec/en012702.pdf; ComponentLink3Description: Microchip.com Home; ComponentLink3URL: http://www.microchip.com/
footprint SOT-23-CH6_N (SOT23, 6-Leads, Body 2.9x1.6mm, Pitch 0.95mm, Lead Span 2.7mm, IPC Medium Density)
footprint SOT-23-CH6_L (SOT23, 6-Leads, Body 2.9x1.6mm, Pitch 0.95mm, Lead Span 2.7mm, IPC High Density)
footprint SOT-23-CH6_M (SOT23, 6-Leads, Body 2.9x1.6mm, Pitch 0.95mm, Lead Span 2.7mm, IPC Low Density)
pins: 1 ~{SHDN} (in), 2 GND (power), 3 VBAT (power), 4 DRV (out), 5 VIN (power), 6 SNS (in)

## MCP73826-4.2VCHTR
designator U?
Single Cell Li-Ion Charge Management Controller, 4.2V, 6-Pin SOT-23, Industrial Temperature, Tape and Reel; Published: 29-Jan-2009; DatasheetVersion: revA, Feb-2003; PackageVersion: revBB, Aug-2009; PackageReference: SOT-23-CH6; Publisher: Altium Limited; PackageDescription: 6-Lead Plastic Small Outline Transistor (CH) [SOT-23]; Supplier 1: Digi-Key; Supplier Part Number 1: MCP73826-4.2VCHTR-ND; Supplier 2: Digi-Key; Supplier Part Number 2: MCP73826-4.2VCHCT-ND; Supplier 3: Digi-Key; Supplier Part Number 3: MCP73826-4.2VCHDKR-ND; Supplier 4: Farnell; Supplier Part Number 4: 1084313; Code_IPC: SOT26A-6; ComponentLink1Description: Datasheet; ComponentLink1URL: http://ww1.microchip.com/downloads/en/DeviceDoc/21705a.pdf; ComponentLink2Description: Packaging Specification; ComponentLink2URL: http://www.microchip.com/stellent/groups/techpub_sg/documents/packagingspec/en012702.pdf; ComponentLink3Description: Microchip.com Home; ComponentLink3URL: http://www.microchip.com/
footprint SOT-23-CH6_N (SOT23, 6-Leads, Body 2.9x1.6mm, Pitch 0.95mm, Lead Span 2.7mm, IPC Medium Density)
footprint SOT-23-CH6_L (SOT23, 6-Leads, Body 2.9x1.6mm, Pitch 0.95mm, Lead Span 2.7mm, IPC High Density)
footprint SOT-23-CH6_M (SOT23, 6-Leads, Body 2.9x1.6mm, Pitch 0.95mm, Lead Span 2.7mm, IPC Low Density)
pins: 1 ~{SHDN} (in), 2 GND (power), 3 VBAT (power), 4 DRV (out), 5 VIN (power), 6 SNS (in)

## MCP73827-4.1VUA
designator U?
Single Cell Li-Ion Charge Management Controller with Mode Indicator & Charge Current Monitor, 4.1V, 8-Pin MSOP, Industrial Temperature; Published: 29-Jan-2009; DatasheetVersion: revB, Feb-2007; PackageVersion: revBB, Aug-2009; PackageReference: MSOP-UA8; Publisher: Altium Limited; PackageDescription: 8-Lead Plastic Micro Small Outline Package (UA) [MSOP]; Supplier 1: Digi-Key; Supplier Part Number 1: MCP73827-4.1VUA-ND; Code_JEDEC: MO-187-AA; ComponentLink1Description: Datasheet; ComponentLink1URL: http://ww1.microchip.com/downloads/en/DeviceDoc/21704B.pdf; ComponentLink2Description: Packaging Specification; ComponentLink2URL: http://www.microchip.com/stellent/groups/techpub_sg/documents/packagingspec/en012702.pdf; ComponentLink3Description: Microchip.com Home; ComponentLink3URL: http://www.microchip.com/
footprint MSOP-UA8_N (TSOP, 8-Leads, Body 3x3mm, Pitch 0.65mm, IPC Medium Density)
footprint MSOP-UA8_L (TSOP, 8-Leads, Body 3x3mm, Pitch 0.65mm, IPC High Density)
footprint MSOP-UA8_M (TSOP, 8-Leads, Body 3x3mm, Pitch 0.65mm, IPC Low Density)
pins: 1 ~{SHDN} (in), 2 GND (power), 3 MODE (oc), 4 IMON (out), 5 VBAT (power), 6 DRV (out), 7 SENSE (in), 8 VIN (power)

## MCP73827-4.1VUATR
designator U?
Single Cell Li-Ion Charge Management Controller with Mode Indicator & Charge Current Monitor, 4.1V, 8-Pin MSOP, Industrial Temperature, Tape and Reel; Published: 29-Jan-2009; DatasheetVersion: revB, Feb-2007; PackageVersion: revBB, Aug-2009; PackageReference: MSOP-UA8; Publisher: Altium Limited; PackageDescription: 8-Lead Plastic Micro Small Outline Package (UA) [MSOP]; Supplier 1: Digi-Key; Supplier Part Number 1: MCP73827-4.1VUATR-ND; Code_JEDEC: MO-187-AA; ComponentLink1Description: Datasheet; ComponentLink1URL: http://ww1.microchip.com/downloads/en/DeviceDoc/21704B.pdf; ComponentLink2Description: Packaging Specification; ComponentLink2URL: http://www.microchip.com/stellent/groups/techpub_sg/documents/packagingspec/en012702.pdf; ComponentLink3Description: Microchip.com Home; ComponentLink3URL: http://www.microchip.com/
footprint MSOP-UA8_N (TSOP, 8-Leads, Body 3x3mm, Pitch 0.65mm, IPC Medium Density)
footprint MSOP-UA8_L (TSOP, 8-Leads, Body 3x3mm, Pitch 0.65mm, IPC High Density)
footprint MSOP-UA8_M (TSOP, 8-Leads, Body 3x3mm, Pitch 0.65mm, IPC Low Density)
pins: 1 ~{SHDN} (in), 2 GND (power), 3 MODE (oc), 4 IMON (out), 5 VBAT (power), 6 DRV (out), 7 SENSE (in), 8 VIN (power)

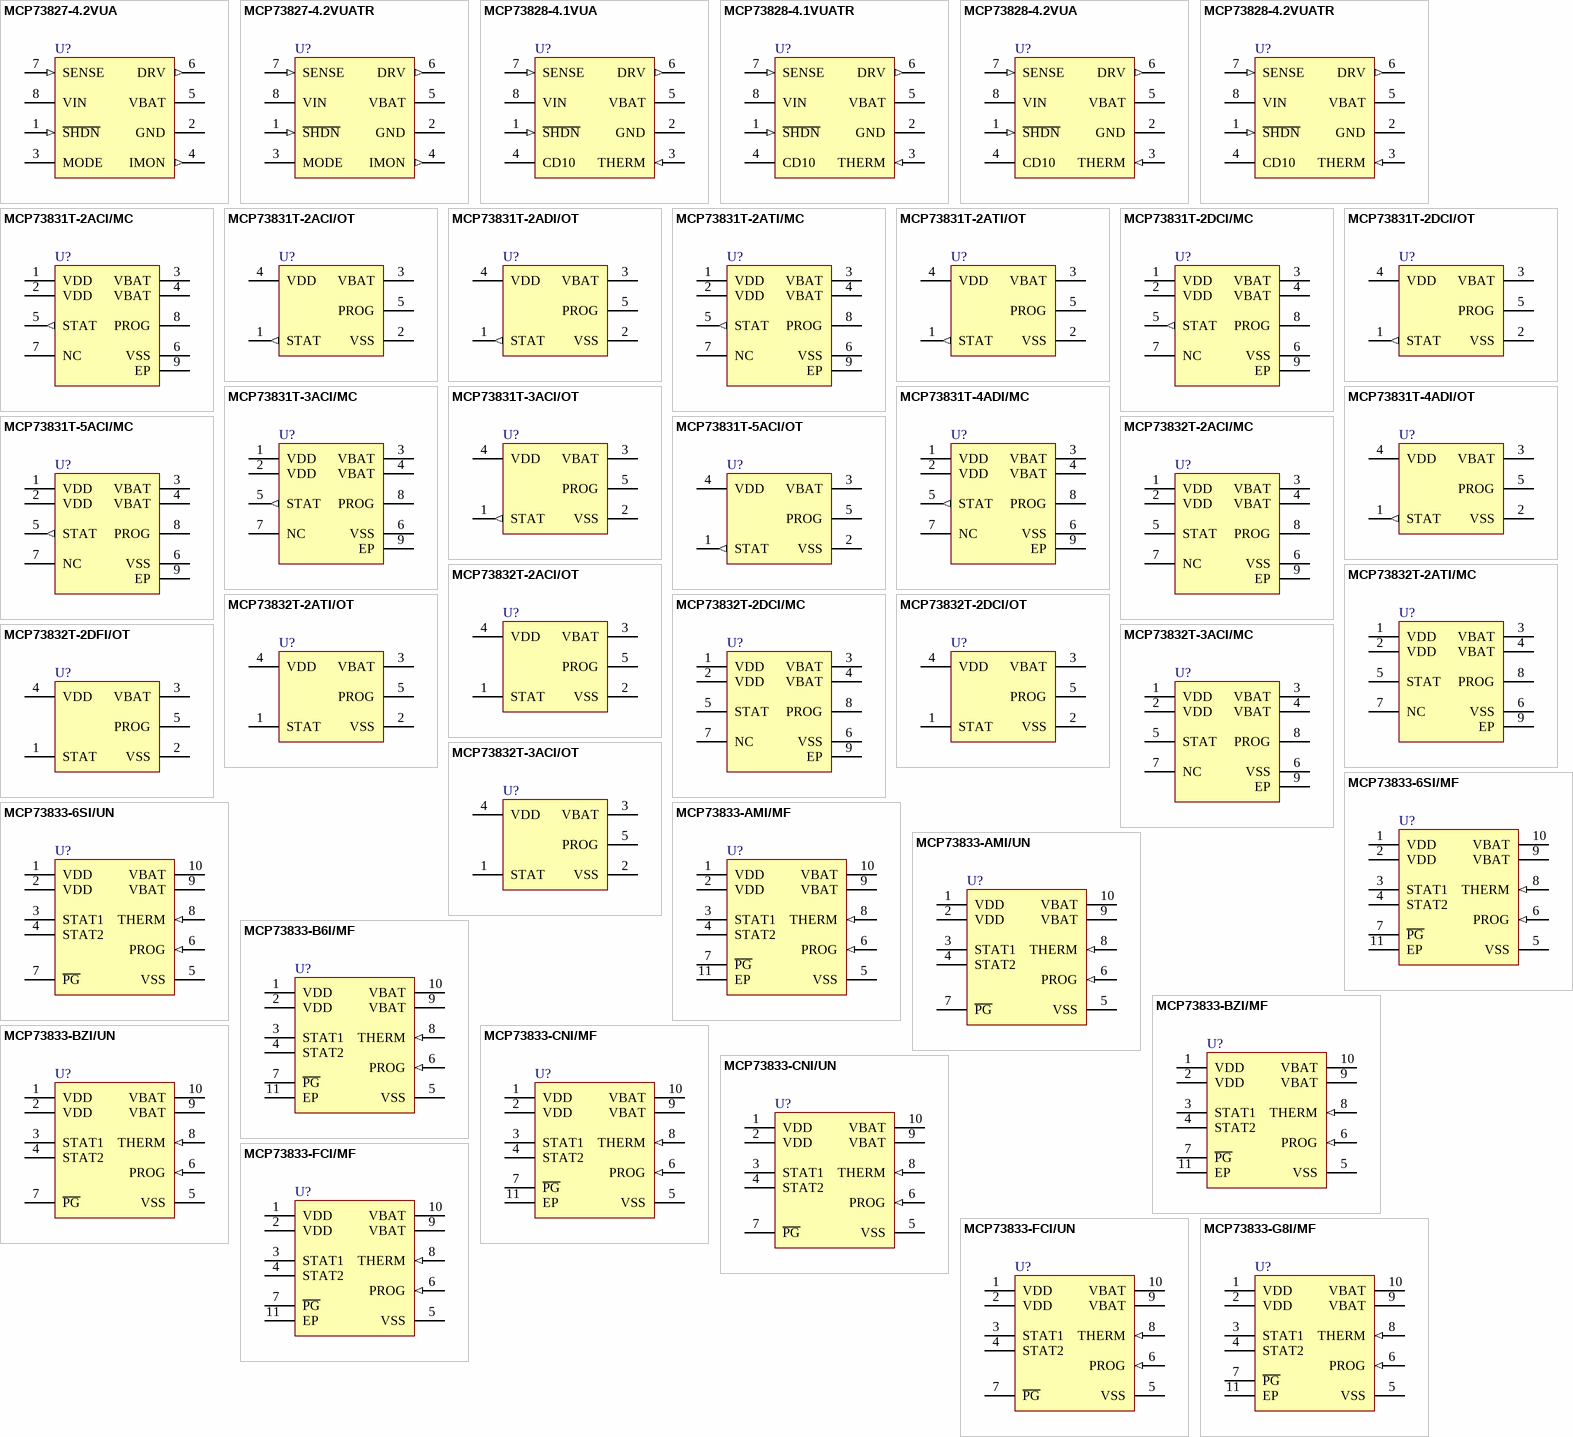
[diagram p1: symbols MCP73827-4.2VUA to MCP73833-G8I/MF]

## MCP73827-4.2VUA
designator U?
Single Cell Li-Ion Charge Management Controller with Mode Indicator & Charge Current Monitor, 4.2V, 8-Pin MSOP, Industrial Temperature; Published: 29-Jan-2009; DatasheetVersion: revB, Feb-2007; PackageVersion: revBB, Aug-2009; PackageReference: MSOP-UA8; Publisher: Altium Limited; PackageDescription: 8-Lead Plastic Micro Small Outline Package (UA) [MSOP]; Supplier 1: Digi-Key; Supplier Part Number 1: MCP73827-4.2VUA-ND; Code_JEDEC: MO-187-AA; ComponentLink1Description: Datasheet; ComponentLink1URL: http://ww1.microchip.com/downloads/en/DeviceDoc/21704B.pdf; ComponentLink2Description: Packaging Specification; ComponentLink2URL: http://www.microchip.com/stellent/groups/techpub_sg/documents/packagingspec/en012702.pdf; ComponentLink3Description: Microchip.com Home; ComponentLink3URL: http://www.microchip.com/
footprint MSOP-UA8_N (TSOP, 8-Leads, Body 3x3mm, Pitch 0.65mm, IPC Medium Density)
footprint MSOP-UA8_L (TSOP, 8-Leads, Body 3x3mm, Pitch 0.65mm, IPC High Density)
footprint MSOP-UA8_M (TSOP, 8-Leads, Body 3x3mm, Pitch 0.65mm, IPC Low Density)
pins: 1 ~{SHDN} (in), 2 GND (power), 3 MODE (oc), 4 IMON (out), 5 VBAT (power), 6 DRV (out), 7 SENSE (in), 8 VIN (power)

## MCP73827-4.2VUATR
designator U?
Single Cell Li-Ion Charge Management Controller with Mode Indicator & Charge Current Monitor, 4.2V, 8-Pin MSOP, Industrial Temperature, Tape and Reel; Published: 29-Jan-2009; DatasheetVersion: revB, Feb-2007; PackageVersion: revBB, Aug-2009; PackageReference: MSOP-UA8; Publisher: Altium Limited; PackageDescription: 8-Lead Plastic Micro Small Outline Package (UA) [MSOP]; Supplier 1: Digi-Key; Supplier Part Number 1: MCP73827-4.2VUATR-ND; Code_JEDEC: MO-187-AA; ComponentLink1Description: Datasheet; ComponentLink1URL: http://ww1.microchip.com/downloads/en/DeviceDoc/21704B.pdf; ComponentLink2Description: Packaging Specification; ComponentLink2URL: http://www.microchip.com/stellent/groups/techpub_sg/documents/packagingspec/en012702.pdf; ComponentLink3Description: Microchip.com Home; ComponentLink3URL: http://www.microchip.com/
footprint MSOP-UA8_N (TSOP, 8-Leads, Body 3x3mm, Pitch 0.65mm, IPC Medium Density)
footprint MSOP-UA8_L (TSOP, 8-Leads, Body 3x3mm, Pitch 0.65mm, IPC High Density)
footprint MSOP-UA8_M (TSOP, 8-Leads, Body 3x3mm, Pitch 0.65mm, IPC Low Density)
pins: 1 ~{SHDN} (in), 2 GND (power), 3 MODE (oc), 4 IMON (out), 5 VBAT (power), 6 DRV (out), 7 SENSE (in), 8 VIN (power)

## MCP73828-4.1VUA
designator U?
Single Cell Li-Ion Charge Management Controller with Charge Indicator & Temperature Monitor, 4.1V, 8-Pin MSOP, Industrial Temperature; Published: 29-Jan-2009; DatasheetVersion: revA, Mar-2002; PackageVersion: revBB, Aug-2009; PackageReference: MSOP-UA8; Publisher: Altium Limited; PackageDescription: 8-Lead Plastic Micro Small Outline Package (UA) [MSOP]; Supplier 1: Digi-Key; Supplier Part Number 1: MCP73828-4.1VUA-ND; Code_JEDEC: MO-187-AA; ComponentLink1Description: Datasheet; ComponentLink1URL: http://ww1.microchip.com/downloads/en/DeviceDoc/21706a_en.pdf; ComponentLink2Description: Packaging Specification; ComponentLink2URL: http://www.microchip.com/stellent/groups/techpub_sg/documents/packagingspec/en012702.pdf; ComponentLink3Description: Microchip.com Home; ComponentLink3URL: http://www.microchip.com/
footprint MSOP-UA8_N (TSOP, 8-Leads, Body 3x3mm, Pitch 0.65mm, IPC Medium Density)
footprint MSOP-UA8_L (TSOP, 8-Leads, Body 3x3mm, Pitch 0.65mm, IPC High Density)
footprint MSOP-UA8_M (TSOP, 8-Leads, Body 3x3mm, Pitch 0.65mm, IPC Low Density)
pins: 1 ~{SHDN} (in), 2 GND (power), 3 THERM (in), 4 CD10 (oc), 5 VBAT (power), 6 DRV (out), 7 SENSE (in), 8 VIN (power)

## MCP73828-4.1VUATR
designator U?
Single Cell Li-Ion Charge Management Controller with Charge Indicator & Temperature Monitor, 4.1V, 8-Pin MSOP, Industrial Temperature, Tape and Reel; Published: 29-Jan-2009; DatasheetVersion: revA, Mar-2002; PackageVersion: revBB, Aug-2009; PackageReference: MSOP-UA8; Publisher: Altium Limited; PackageDescription: 8-Lead Plastic Micro Small Outline Package (UA) [MSOP]; Supplier 1: Digi-Key; Supplier Part Number 1: MCP73828-4.1VUATR-ND; Code_JEDEC: MO-187-AA; ComponentLink1Description: Datasheet; ComponentLink1URL: http://ww1.microchip.com/downloads/en/DeviceDoc/21706a_en.pdf; ComponentLink2Description: Packaging Specification; ComponentLink2URL: http://www.microchip.com/stellent/groups/techpub_sg/documents/packagingspec/en012702.pdf; ComponentLink3Description: Microchip.com Home; ComponentLink3URL: http://www.microchip.com/
footprint MSOP-UA8_N (TSOP, 8-Leads, Body 3x3mm, Pitch 0.65mm, IPC Medium Density)
footprint MSOP-UA8_L (TSOP, 8-Leads, Body 3x3mm, Pitch 0.65mm, IPC High Density)
footprint MSOP-UA8_M (TSOP, 8-Leads, Body 3x3mm, Pitch 0.65mm, IPC Low Density)
pins: 1 ~{SHDN} (in), 2 GND (power), 3 THERM (in), 4 CD10 (oc), 5 VBAT (power), 6 DRV (out), 7 SENSE (in), 8 VIN (power)